# EAGLE library part 2450LP14B100 (library RF)
FILTER LOWPASS 2.4GHZ WIFI Johanson 2450LP14B100 Datasheet <https://www.johansontechnology.com/datasheets/low-pass-filters/2450LP14B100.pdf>
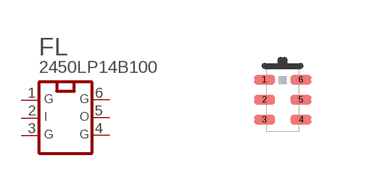
[diagram p8: symbol with the pads of 0603-6PIN-1.6X0.8; footprint 0603-6PIN-1.6X0.8]

Designator prefix FL

## 2450LP14B100 (BANDWIDTH: 100MHz; DATASHEET: http://goo.gl/uVxpFP; DESC: FILTER LOWPASS 2.4GHZ WIFI; FREQ: 2.4~2.5GHz; LOSS: 0.5dB; MANF: Johanson Technology; MFPN: 2450LP14B100; PARTNO: NEW; TYPE: Low Pass)  [0603-6PIN-1.6X0.8]
1  1  pwr
2  2  pas
3  3  pwr
4  4  pwr
5  5  pas
6  6  pwr

## Footprint 0603-6PIN-1.6X0.8 (pad centres in mm)
0603 6PIN, 2 Side Convex, 0.50 mm pitch, 1.60x0.80mm, 0.70 mm H body
smd 0.52 x 0.23: 1 -0.455,0.5; 2 -0.455,0; 3 -0.455,-0.5; 4 0.455,-0.5; 5 0.455,0; 6 0.455,0.5